# Altium footprint library XTAL_ABLS2-12.000MHZ-D4Y-T.PcbLib: 1 footprints
Each footprint in its own frame and in the unit in brackets; x right, y up, seen from the top. Pads: shape width x height; smd on the part's side, far side on the other; paste and mask are expansions set on the pad; w line width, h text height; cw(c..) or ccw(c..) is an arc to the next point about the centre after c.
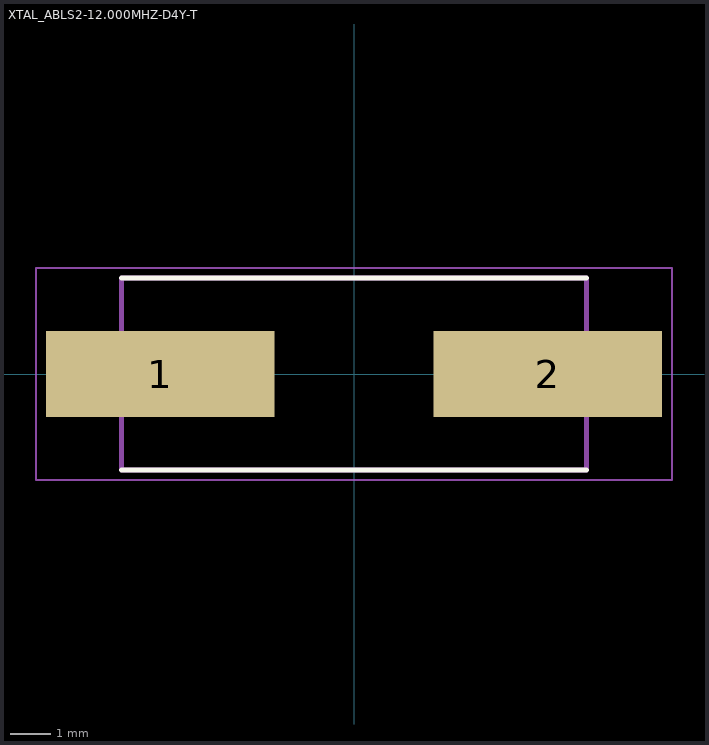
[diagram p0: the footprint, top view; thin cyan lines are the x and y axes]

## XTAL_ABLS2-12.000MHZ-D4Y-T [mm]
height 3.3
pads (2):
  rect 5.6x2.1 smd: 1(-4.75,0) 2(4.75,0)
Top Overlay:
  lines w0.127: -5.7,-2.35 5.7,-2.35 ; -5.7,2.35 5.7,2.35
Mechanical 13:
  lines w0.127: -5.7,-2.35 -5.7,2.35 5.7,2.35 5.7,-2.35 -5.7,-2.35
Mechanical 15:
  lines w0.05: -7.8,-2.6 -7.8,2.6 7.8,2.6 7.8,-2.6 -7.8,-2.6
3D body "step_temp.STEP": height 3.16, standoff -0.1, extent -6.35,-2.349 6.35,2.349